# Altium schematic symbol library TTL_Library.SchLib: 480 symbols (part 4 of 4)
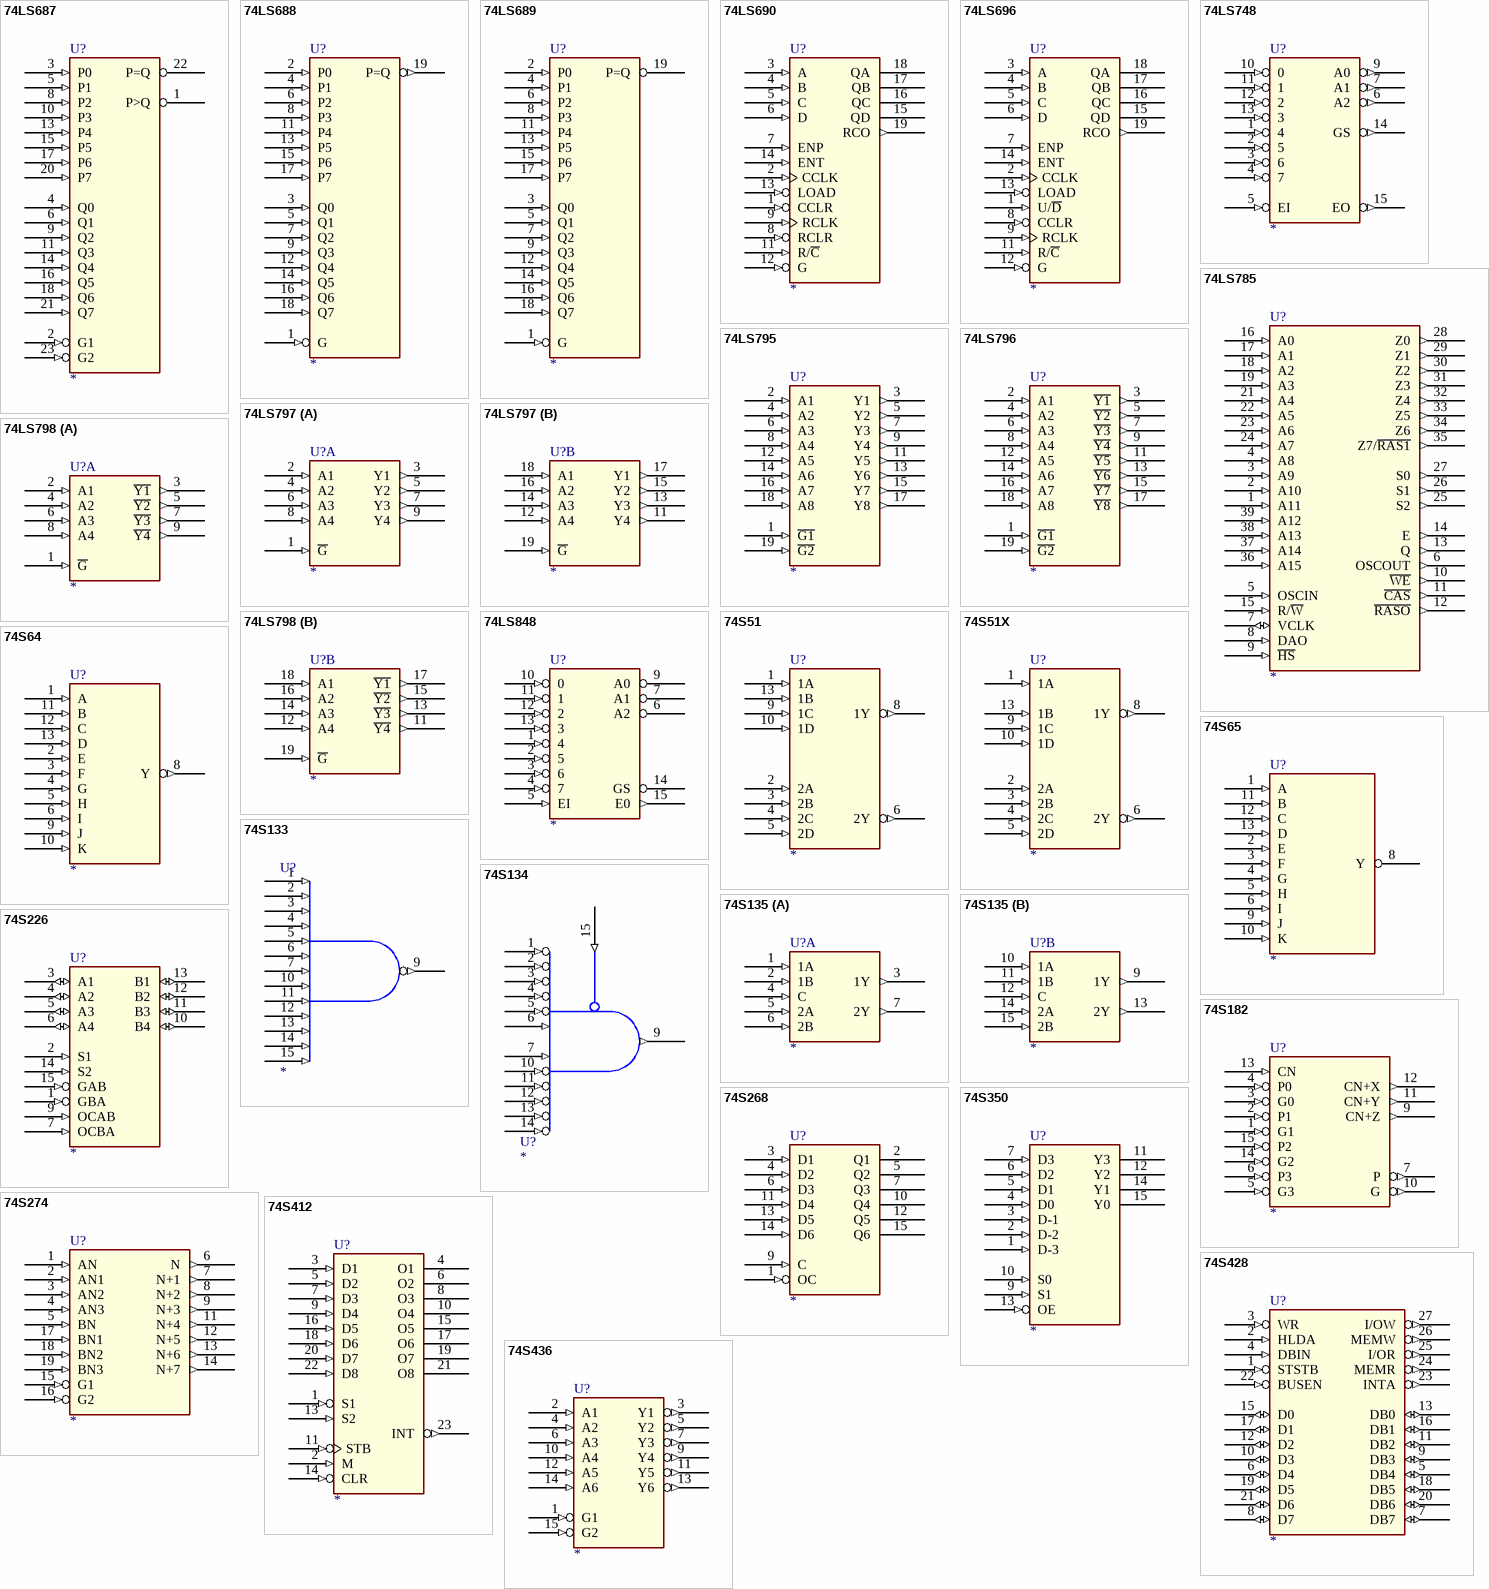
[diagram p28: symbols 74LS687 to 74S436]

## 74LS696
designator U?
pins: 1 U/~{D} (in), 2 CCLK (in), 3 A (in), 4 B (in), 5 C (in), 6 D (in), 7 ENP (in), 8 CCLR (in), 9 RCLK (in), 10 GND (power) hidden to GND, 11 R/~{C} (in), 12 G (in), 13 LOAD (in), 14 ENT (in), 15 QD (hiz), 16 QC (hiz), 17 QB (hiz), 18 QA (hiz), 19 RCO (out), 20 VCC (power) hidden to VCC

## 74LS748
designator U?
pins: 1 4 (in), 2 5 (in), 3 6 (in), 4 7 (in), 5 EI (in), 6 A2 (out), 7 A1 (out), 8 GND (power) hidden to GND, 9 A0 (out), 10 0 (in), 11 1 (in), 12 2 (in), 13 3 (in), 14 GS (out), 15 EO (out), 16 VCC (power) hidden to VCC

## 74LS785
designator U?
pins: 1 A11 (in), 2 A10 (in), 3 A9 (in), 4 A8 (in), 5 OSCIN (in), 6 OSCOUT (out), 7 VCLK (io), 8 DAO (in), 9 ~{HS} (in), 10 ~{WE} (out), 11 ~{CAS} (out), 12 ~{RASO} (out), 13 Q (out), 14 E (out), 15 R/~{W} (in), 16 A0 (in), 17 A1 (in), 18 A2 (in), 19 A3 (in), 20 GND (power) hidden to GND, 21 A4 (in), 22 A5 (in), 23 A6 (in), 24 A7 (in), 25 S2 (out), 26 S1 (out), 27 S0 (out), 28 Z0 (out), 29 Z1 (out), 30 Z2 (out), 31 Z3 (out), 32 Z4 (out), 33 Z5 (out), 34 Z6 (out), 35 Z7/~{RAS1} (out), 36 A15 (in), 37 A14 (in), 38 A13 (in), 39 A12 (in), 40 VCC (power) hidden to VCC

## 74LS795
designator U?
pins: 1 ~{G1} (in), 2 A1 (in), 3 Y1 (out), 4 A2 (in), 5 Y2 (out), 6 A3 (in), 7 Y3 (out), 8 A4 (in), 9 Y4 (out), 10 GND (power) hidden to GND, 11 Y5 (out), 12 A5 (in), 13 Y6 (out), 14 A6 (in), 15 Y7 (out), 16 A7 (in), 17 Y8 (out), 18 A8 (in), 19 ~{G2} (in), 20 VCC (power) hidden to VCC

## 74LS796
designator U?
pins: 1 ~{G1} (in), 2 A1 (in), 3 ~{Y1} (out), 4 A2 (in), 5 ~{Y2} (out), 6 A3 (in), 7 ~{Y3} (out), 8 A4 (in), 9 ~{Y4} (out), 10 GND (power) hidden to GND, 11 ~{Y5} (out), 12 A5 (in), 13 ~{Y6} (out), 14 A6 (in), 15 ~{Y7} (out), 16 A7 (in), 17 ~{Y8} (out), 18 A8 (in), 19 ~{G2} (in), 20 VCC (power) hidden to VCC

## 74LS797
designator U?
part A pins: 1 ~{G} (in), 2 A1 (in), 3 Y1 (out), 4 A2 (in), 5 Y2 (out), 6 A3 (in), 7 Y3 (out), 8 A4 (in), 9 Y4 (out), 10 GND (power) hidden to GND, 20 VCC (power) hidden to VCC
part B pins: 10 GND (power) hidden to GND, 11 Y4 (out), 12 A4 (in), 13 Y3 (out), 14 A3 (in), 15 Y2 (out), 16 A2 (in), 17 Y1 (out), 18 A1 (in), 19 ~{G} (in), 20 VCC (power) hidden to VCC

## 74LS798
designator U?
part A pins: 1 ~{G} (in), 2 A1 (in), 3 ~{Y1} (out), 4 A2 (in), 5 ~{Y2} (out), 6 A3 (in), 7 ~{Y3} (out), 8 A4 (in), 9 ~{Y4} (out), 10 GND (power) hidden to GND, 20 VCC (power) hidden to VCC
part B pins: 10 GND (power) hidden to GND, 11 ~{Y4} (out), 12 A4 (in), 13 ~{Y3} (out), 14 A3 (in), 15 ~{Y2} (out), 16 A2 (in), 17 ~{Y1} (out), 18 A1 (in), 19 ~{G} (in), 20 VCC (power) hidden to VCC

## 74LS848
designator U?
pins: 1 4 (in), 2 5 (in), 3 6 (in), 4 7 (in), 5 EI (in), 6 A2 (hiz), 7 A1 (hiz), 8 GND (power) hidden to GND, 9 A0 (hiz), 10 0 (in), 11 1 (in), 12 2 (in), 13 3 (in), 14 GS (hiz), 15 E0 (out), 16 VCC (power) hidden to VCC

## 74S51
designator U?
pins: 1 1A (in), 2 2A (in), 3 2B (in), 4 2C (in), 5 2D (in), 6 2Y (out), 7 GND (power) hidden to GND, 8 1Y (out), 9 1C (in), 10 1D (in), 13 1B (in), 14 VCC (power) hidden to VCC

## 74S51X
designator U?
pins: 1 1A (in), 2 2A (in), 3 2B (in), 4 2C (in), 5 2D (in), 6 2Y (out), 7 GND (power) hidden to GND, 8 1Y (out), 9 1C (in), 10 1D (in), 13 1B (in), 14 VCC (power) hidden to VCC

## 74S64
designator U?
pins: 1 A (in), 2 E (in), 3 F (in), 4 G (in), 5 H (in), 6 I (in), 7 GND (power) hidden to GND, 8 Y (out), 9 J (in), 10 K (in), 11 B (in), 12 C (in), 13 D (in), 14 VCC (power) hidden to VCC

## 74S65
designator U?
pins: 1 A (in), 2 E (in), 3 F (in), 4 G (in), 5 H (in), 6 I (in), 7 GND (power) hidden to GND, 8 Y (oc), 9 J (in), 10 K (in), 11 B (in), 12 C (in), 13 D (in), 14 VCC (power) hidden to VCC

## 74S133
designator U?
pins: 1 I0 (in), 2 I1 (in), 3 I2 (in), 4 I3 (in), 5 I4 (in), 6 I5 (in), 7 I6 (in), 8 GND (power) hidden to GND, 9 O (out), 10 I7 (in), 11 I8 (in), 12 I9 (in), 13 I10 (in), 14 I11 (in), 15 I12 (in), 16 VCC (power) hidden to VCC
1 alternate drawing of the same symbol

## 74S134
designator U?
pins: 1 I0 (in), 2 I1 (in), 3 I2 (in), 4 I3 (in), 5 I4 (in), 6 I5 (in), 7 I6 (in), 8 GND (power) hidden to GND, 9 O (out), 10 I7 (in), 11 I8 (in), 12 I9 (in), 13 I10 (in), 14 I11 (in), 15 OE (in), 16 VCC (power) hidden to VCC
1 alternate drawing of the same symbol

## 74S135
designator U?
part A pins: 1 1A (in), 2 1B (in), 3 1Y (out), 4 C (in), 5 2A (in), 6 2B (in), 7 2Y (out), 8 GND (power) hidden to GND, 16 VCC (power) hidden to VCC
part B pins: 8 GND (power) hidden to GND, 9 1Y (out), 10 1A (in), 11 1B (in), 12 C (in), 13 2Y (out), 14 2A (in), 15 2B (in), 16 VCC (power) hidden to VCC

## 74S182
designator U?
pins: 1 G1 (in), 2 P1 (in), 3 G0 (in), 4 P0 (in), 5 G3 (in), 6 P3 (in), 7 P (out), 8 GND (power) hidden to GND, 9 CN+Z (out), 10 G (out), 11 CN+Y (out), 12 CN+X (out), 13 CN (in), 14 G2 (in), 15 P2 (in), 16 VCC (power) hidden to VCC

## 74S226
designator U?
pins: 1 GBA (in), 2 S1 (in), 3 A1 (io), 4 A2 (io), 5 A3 (io), 6 A4 (io), 7 OCBA (in), 8 GND (power) hidden to GND, 9 OCAB (in), 10 B4 (io), 11 B3 (io), 12 B2 (io), 13 B1 (io), 14 S2 (in), 15 GAB (in), 16 VCC (power) hidden to VCC

## 74S268
designator U?
pins: 1 OC (in), 2 Q1 (hiz), 3 D1 (in), 4 D2 (in), 5 Q2 (hiz), 6 D3 (in), 7 Q3 (hiz), 8 GND (power) hidden to GND, 9 C (in), 10 Q4 (hiz), 11 D4 (in), 12 Q5 (hiz), 13 D5 (in), 14 D6 (in), 15 Q6 (hiz), 16 VCC (power) hidden to VCC

## 74S274
designator U?
pins: 1 AN (in), 2 AN1 (in), 3 AN2 (in), 4 AN3 (in), 5 BN (in), 6 N (out), 7 N+1 (out), 8 N+2 (out), 9 N+3 (out), 10 GND (power) hidden to GND, 11 N+4 (out), 12 N+5 (out), 13 N+6 (out), 14 N+7 (out), 15 G1 (in), 16 G2 (in), 17 BN1 (in), 18 BN2 (in), 19 BN3 (in), 20 VCC (power) hidden to VCC

## 74S350
designator U?
pins: 1 D-3 (in), 2 D-2 (in), 3 D-1 (in), 4 D0 (in), 5 D1 (in), 6 D2 (in), 7 D3 (in), 8 GND (power) hidden to GND, 9 S1 (in), 10 S0 (in), 11 Y3 (hiz), 12 Y2 (hiz), 13 OE (in), 14 Y1 (hiz), 15 Y0 (hiz), 16 VCC (power) hidden to VCC

## 74S412
designator U?
pins: 1 S1 (in), 2 M (in), 3 D1 (in), 4 O1 (hiz), 5 D2 (in), 6 O2 (hiz), 7 D3 (in), 8 O3 (hiz), 9 D4 (in), 10 O4 (hiz), 11 STB (in), 12 GND (power) hidden to GND, 13 S2 (in), 14 CLR (in), 15 O5 (hiz), 16 D5 (in), 17 O6 (hiz), 18 D6 (in), 19 O7 (hiz), 20 D7 (in), 21 O8 (hiz), 22 D8 (in), 23 INT (out), 24 VCC (power) hidden to VCC

## 74S428
designator U?
pins: 1 STSTB (in), 2 HLDA (in), 3 WR (in), 4 DBIN (in), 5 DB4 (io), 6 D4 (io), 7 DB7 (io), 8 D7 (io), 9 DB3 (io), 10 D3 (io), 11 DB2 (io), 12 D2 (io), 13 DB0 (io), 14 GND (power) hidden to GND, 15 D0 (io), 16 DB1 (io), 17 D1 (io), 18 DB5 (io), 19 D5 (io), 20 DB6 (io), 21 D6 (io), 22 BUSEN (in), 23 INTA (out), 24 MEMR (out), 25 I/OR (out), 26 MEMW (out), 27 I/OW (out), 28 VCC (power) hidden to VCC

## 74S436
designator U?
pins: 1 G1 (in), 2 A1 (in), 3 Y1 (out), 4 A2 (in), 5 Y2 (out), 6 A3 (in), 7 Y3 (out), 8 GND (power) hidden to GND, 9 Y4 (out), 10 A4 (in), 11 Y5 (out), 12 A5 (in), 13 Y6 (out), 14 A6 (in), 15 G2 (in), 16 VCC (power) hidden to VCC

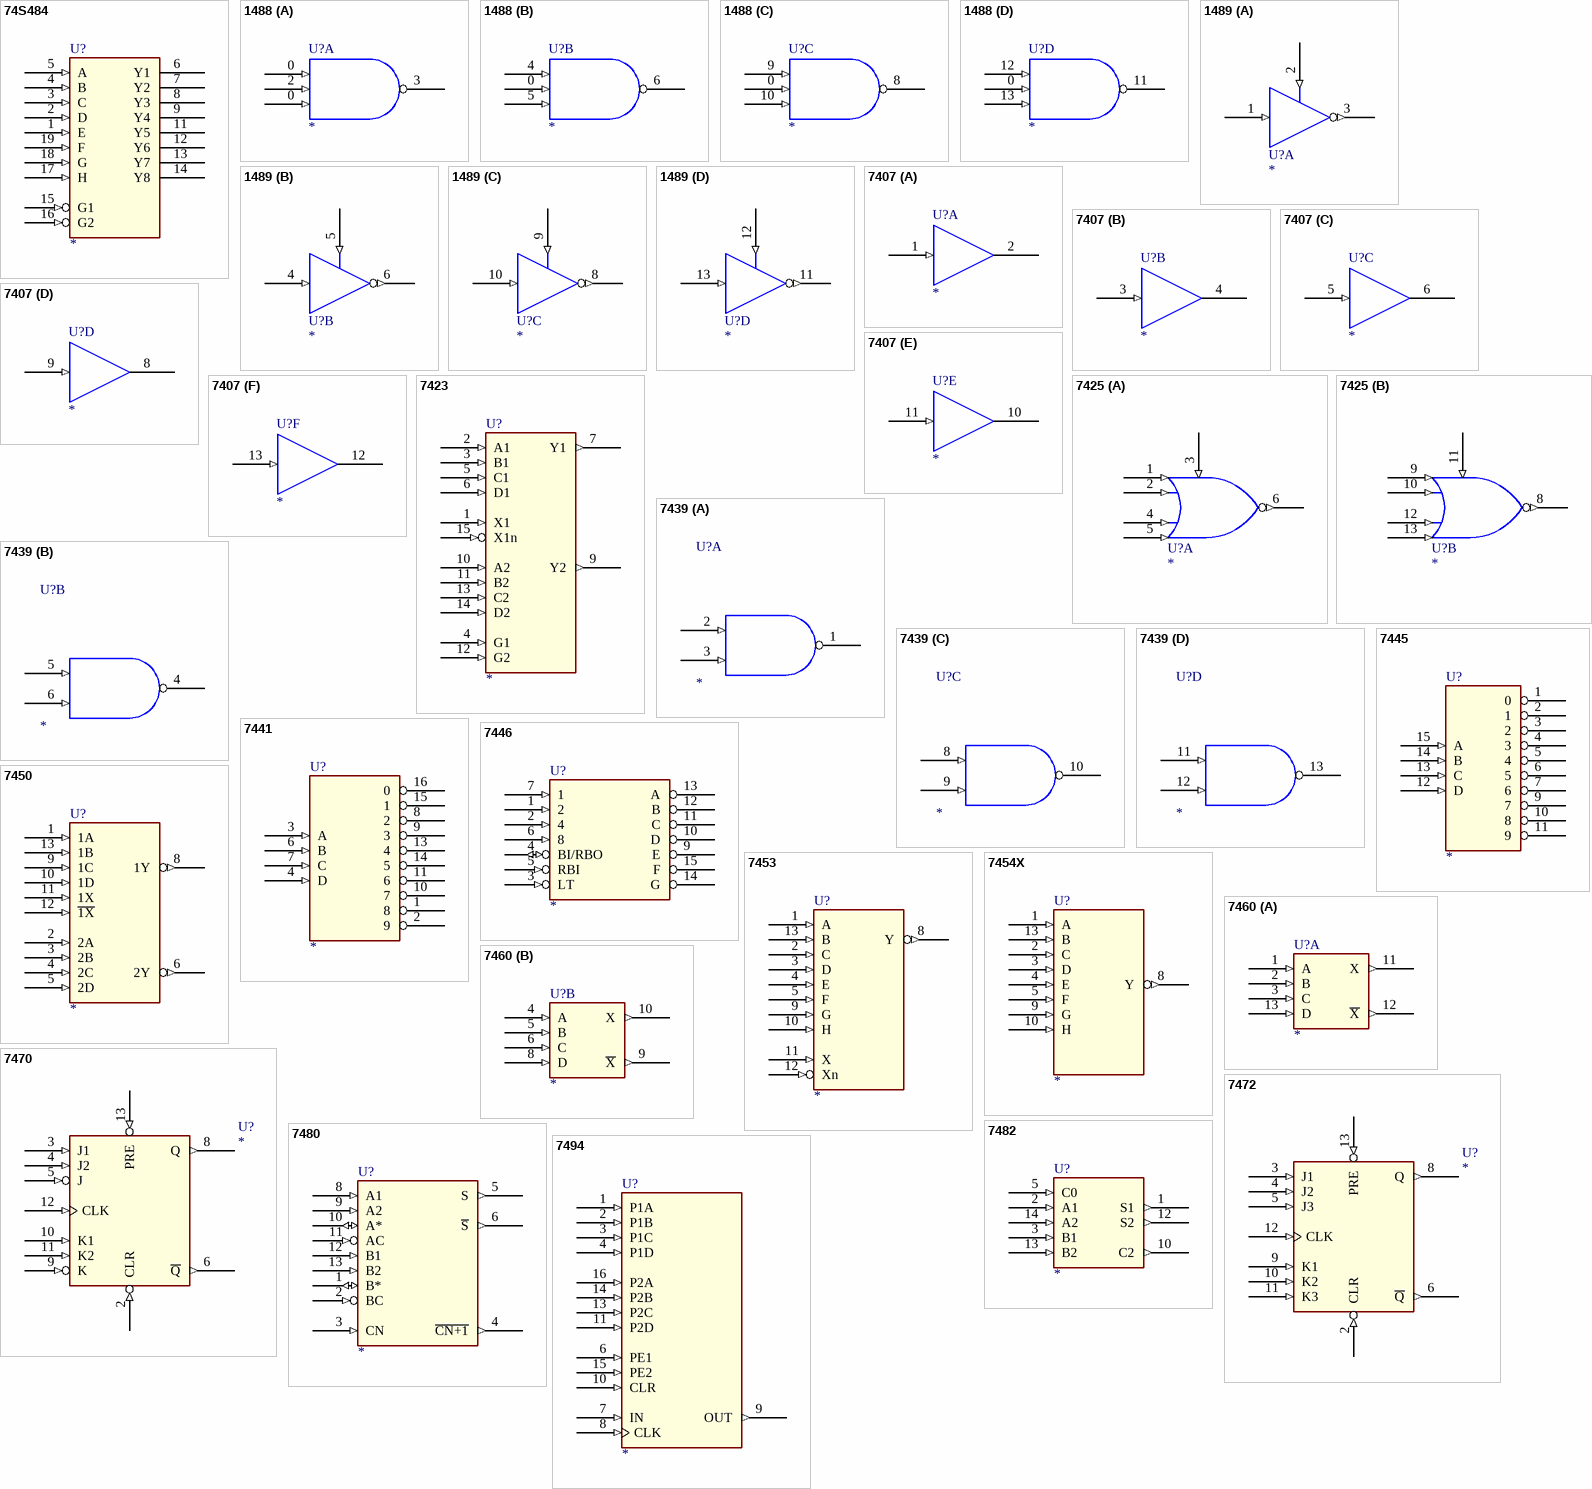
[diagram p23: symbols 74S484 to 7494]

## 74S484
designator U?
pins: 1 E (in), 2 D (in), 3 C (in), 4 B (in), 5 A (in), 6 Y1 (hiz), 7 Y2 (hiz), 8 Y3 (hiz), 9 Y4 (hiz), 10 GND (power) hidden to GND, 11 Y5 (hiz), 12 Y6 (hiz), 13 Y7 (hiz), 14 Y8 (hiz), 15 G1 (in), 16 G2 (in), 17 H (in), 18 G (in), 19 F (in), 20 VCC (power) hidden to VCC

## 1488
designator U?
part A pins: 0 I0 (in), 0 I2 (in), 1 V- (power) hidden to V-, 2 I1 (in), 3 O (oc), 7 GND (power) hidden to GND, 14 V+ (power) hidden to V+
part B pins: 0 I1 (in), 1 V- (power) hidden to V-, 4 I0 (in), 5 I2 (in), 6 O (oc), 7 GND (power) hidden to GND, 14 V+ (power) hidden to V+
part C pins: 0 I1 (in), 1 V- (power) hidden to V-, 7 GND (power) hidden to GND, 8 O (oc), 9 I0 (in), 10 I2 (in), 14 V+ (power) hidden to V+
part D pins: 0 I1 (in), 1 V- (power) hidden to V-, 7 GND (power) hidden to GND, 11 O (oc), 12 I0 (in), 13 I2 (in), 14 V+ (power) hidden to V+

## 1489
designator U?
part A pins: 1 I (in), 2 RC (in), 3 O (out), 7 GND (power) hidden to GND, 14 VCC (power) hidden to VCC
part B pins: 4 I (in), 5 RC (in), 6 O (out), 7 GND (power) hidden to GND, 14 VCC (power) hidden to VCC
part C pins: 7 GND (power) hidden to GND, 8 O (out), 9 RC (in), 10 I (in), 14 VCC (power) hidden to VCC
part D pins: 7 GND (power) hidden to GND, 11 O (out), 12 RC (in), 13 I (in), 14 VCC (power) hidden to VCC

## 7407
designator U?
part A pins: 1 I (in), 2 O (oc), 7 GND (power) hidden to GND, 14 VCC (power) hidden to VCC
part B pins: 3 I (in), 4 O (oc), 7 GND (power) hidden to GND, 14 VCC (power) hidden to VCC
part C pins: 5 I (in), 6 O (oc), 7 GND (power) hidden to GND, 14 VCC (power) hidden to VCC
part D pins: 7 GND (power) hidden to GND, 8 O (oc), 9 I (in), 14 VCC (power) hidden to VCC
part E pins: 7 GND (power) hidden to GND, 10 O (oc), 11 I (in), 14 VCC (power) hidden to VCC
part F pins: 7 GND (power) hidden to GND, 12 O (oc), 13 I (in), 14 VCC (power) hidden to VCC
1 alternate drawing of the same symbol

## 7423
designator U?
pins: 1 X1 (in), 2 A1 (in), 3 B1 (in), 4 G1 (in), 5 C1 (in), 6 D1 (in), 7 Y1 (out), 8 GND (power) hidden to GND, 9 Y2 (out), 10 A2 (in), 11 B2 (in), 12 G2 (in), 13 C2 (in), 14 D2 (in), 15 X1n (in), 16 VCC (power) hidden to VCC

## 7425
designator U?
part A pins: 1 I0 (in), 2 I1 (in), 3 G (in), 4 I2 (in), 5 I3 (in), 6 O (out), 7 GND (power) hidden to GND, 14 VCC (power) hidden to VCC
part B pins: 7 GND (power) hidden to GND, 8 O (out), 9 I0 (in), 10 I1 (in), 11 G (in), 12 I2 (in), 13 I3 (in), 14 VCC (power) hidden to VCC
1 alternate drawing of the same symbol

## 7439
designator U?
part A pins: 1 O (oc), 2 I0 (in), 3 I1 (in), 7 GND (power) hidden to GND, 14 VCC (power) hidden to VCC
part B pins: 4 O (oc), 5 I0 (in), 6 I1 (in), 7 GND (power) hidden to GND, 14 VCC (power) hidden to VCC
part C pins: 7 GND (power) hidden to GND, 8 I0 (in), 9 I1 (in), 10 O (oc), 14 VCC (power) hidden to VCC
part D pins: 7 GND (power) hidden to GND, 11 I0 (in), 12 I1 (in), 13 O (oc), 14 VCC (power) hidden to VCC
1 alternate drawing of the same symbol

## 7441
designator U?
pins: 1 8 (oc), 2 9 (oc), 3 A (in), 4 D (in), 5 VCC (power) hidden to VCC, 6 B (in), 7 C (in), 8 2 (oc), 9 3 (oc), 10 7 (oc), 11 6 (oc), 12 GND (power) hidden to GND, 13 4 (oc), 14 5 (oc), 15 1 (oc), 16 0 (oc)

## 7445
designator U?
pins: 1 0 (oc), 2 1 (oc), 3 2 (oc), 4 3 (oc), 5 4 (oc), 6 5 (oc), 7 6 (oc), 8 GND (power) hidden to GND, 9 7 (oc), 10 8 (oc), 11 9 (oc), 12 D (in), 13 C (in), 14 B (in), 15 A (in), 16 VCC (power) hidden to VCC

## 7446
designator U?
pins: 1 2 (in), 2 4 (in), 3 LT (in), 4 BI/RBO (io), 5 RBI (in), 6 8 (in), 7 1 (in), 8 GND (power) hidden to GND, 9 E (oc), 10 D (oc), 11 C (oc), 12 B (oc), 13 A (oc), 14 G (oc), 15 F (oc), 16 VCC (power) hidden to VCC

## 7450
designator U?
pins: 1 1A (in), 2 2A (in), 3 2B (in), 4 2C (in), 5 2D (in), 6 2Y (out), 7 GND (power) hidden to GND, 8 1Y (out), 9 1C (in), 10 1D (in), 11 1X (in), 12 ~{1X} (in), 13 1B (in), 14 VCC (power) hidden to VCC

## 7453
designator U?
pins: 1 A (in), 2 C (in), 3 D (in), 4 E (in), 5 F (in), 7 GND (power) hidden to GND, 8 Y (out), 9 G (in), 10 H (in), 11 X (in), 12 Xn (in), 13 B (in), 14 VCC (power) hidden to VCC

## 7454X
designator U?
pins: 1 A (in), 2 C (in), 3 D (in), 4 E (in), 5 F (in), 7 GND (power) hidden to GND, 8 Y (out), 9 G (in), 10 H (in), 13 B (in), 14 VCC (power) hidden to VCC

## 7460
designator U?
part A pins: 1 A (in), 2 B (in), 3 C (in), 7 GND (power) hidden to GND, 11 X (out), 12 ~{X} (out), 13 D (in), 14 VCC (power) hidden to VCC
part B pins: 4 A (in), 5 B (in), 6 C (in), 7 GND (power) hidden to GND, 8 D (in), 9 ~{X} (out), 10 X (out), 14 VCC (power) hidden to VCC

## 7470
designator U?
pins: 2 CLR (in), 3 J1 (in), 4 J2 (in), 5 J (in), 6 ~{Q} (out), 7 GND (power) hidden to GND, 8 Q (out), 9 K (in), 10 K1 (in), 11 K2 (in), 12 CLK (in), 13 PRE (in), 14 VCC (power) hidden to VCC

## 7472
designator U?
pins: 2 CLR (in), 3 J1 (in), 4 J2 (in), 5 J3 (in), 6 ~{Q} (out), 7 GND (power) hidden to GND, 8 Q (out), 9 K1 (in), 10 K2 (in), 11 K3 (in), 12 CLK (in), 13 PRE (in), 14 VCC (power) hidden to VCC

## 7480
designator U?
pins: 1 B* (io), 2 BC (in), 3 CN (in), 4 ~{CN+1} (out), 5 S (out), 6 ~{S} (out), 7 GND (power) hidden to GND, 8 A1 (in), 9 A2 (in), 10 A* (io), 11 AC (in), 12 B1 (in), 13 B2 (in), 14 VCC (power) hidden to VCC

## 7482
designator U?
pins: 1 S1 (out), 2 A1 (in), 3 B1 (in), 4 VCC (power) hidden to VCC, 5 C0 (in), 7 GND (power) hidden to GND, 10 C2 (out), 12 S2 (out), 13 B2 (in), 14 A2 (in)

## 7494
designator U?
pins: 1 P1A (in), 2 P1B (in), 3 P1C (in), 4 P1D (in), 5 VCC (power) hidden to VCC, 6 PE1 (in), 7 IN (in), 8 CLK (in), 9 OUT (out), 10 CLR (in), 11 P2D (in), 12 GND (power) hidden to GND, 13 P2C (in), 14 P2B (in), 15 PE2 (in), 16 P2A (in)

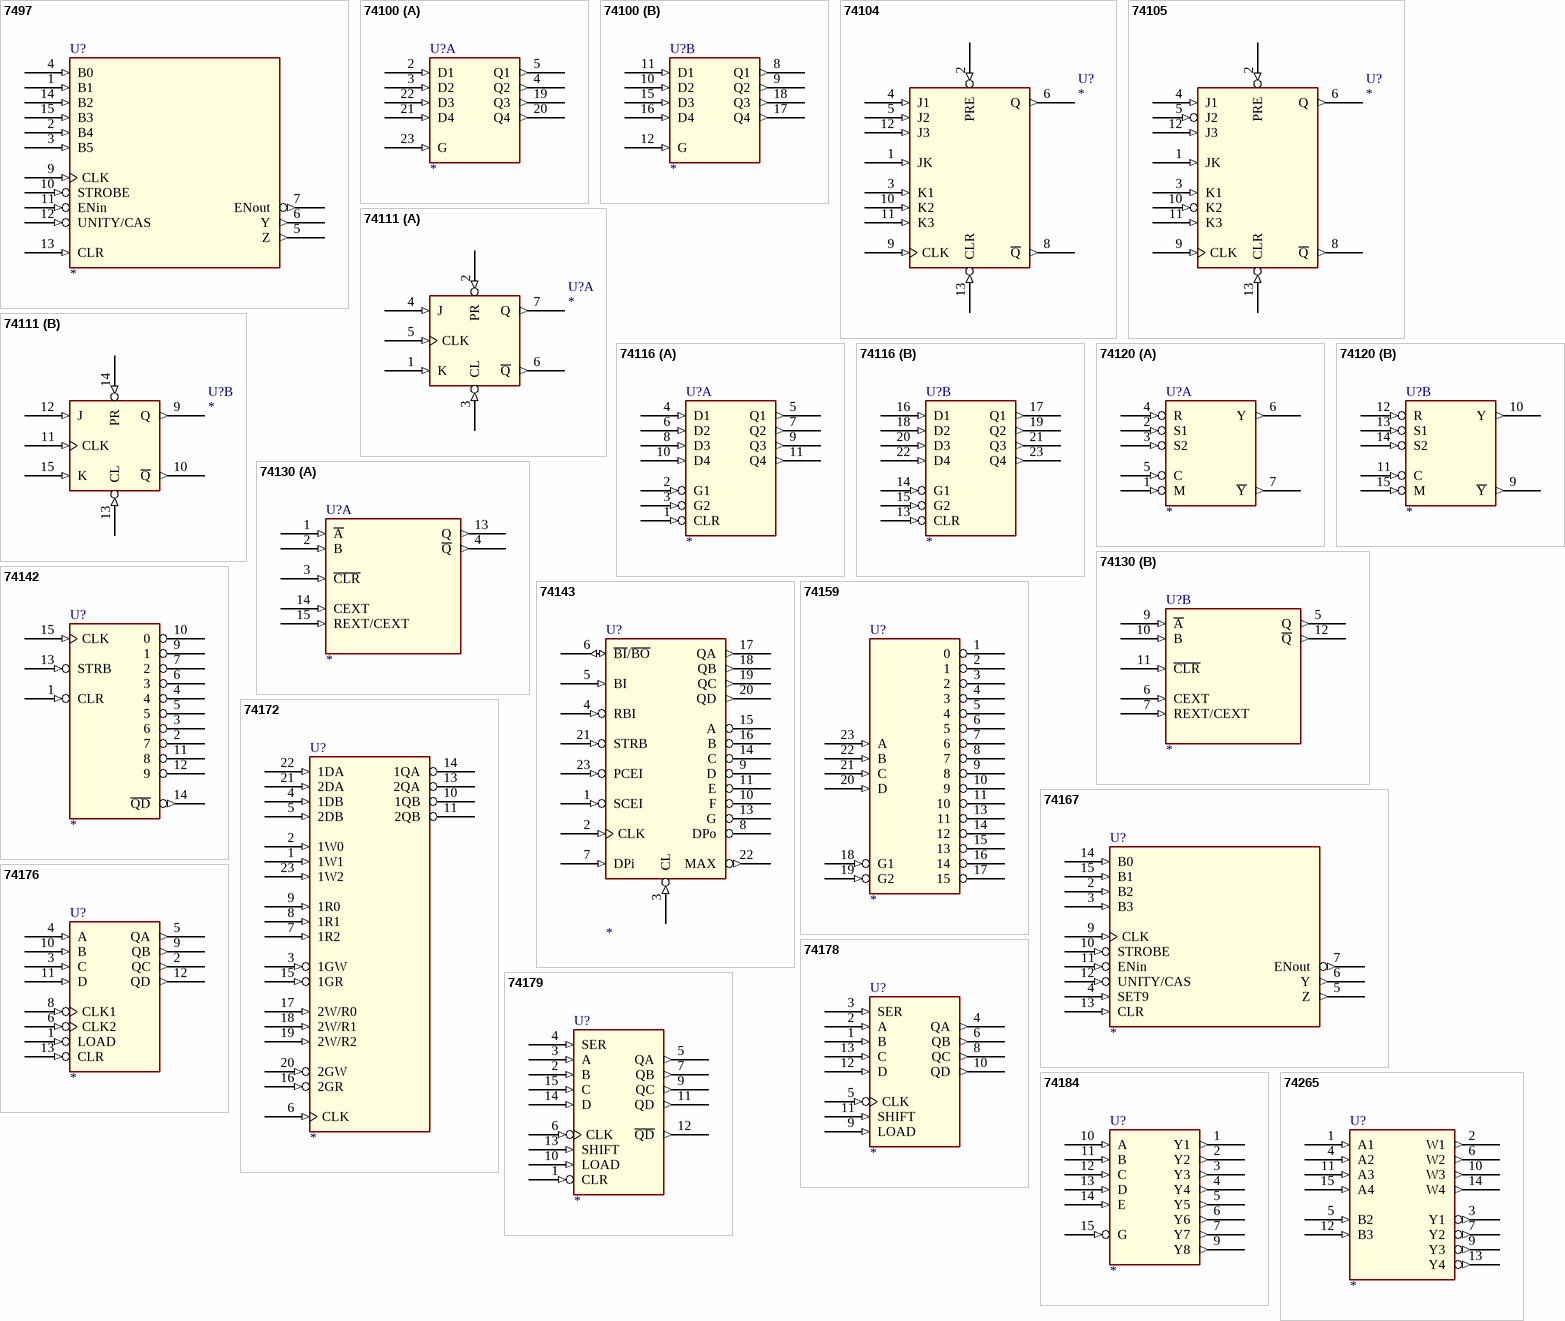
[diagram p24: symbols 7497 to 74265]

## 7497
designator U?
pins: 1 B1 (in), 2 B4 (in), 3 B5 (in), 4 B0 (in), 5 Z (out), 6 Y (out), 7 ENout (out), 8 GND (power) hidden to GND, 9 CLK (in), 10 STROBE (in), 11 ENin (in), 12 UNITY/CAS (in), 13 CLR (in), 14 B2 (in), 15 B3 (in), 16 VCC (power) hidden to VCC

## 74100
designator U?
part A pins: 2 D1 (in), 3 D2 (in), 4 Q2 (out), 5 Q1 (out), 7 GND (power) hidden to GND, 19 Q3 (out), 20 Q4 (out), 21 D4 (in), 22 D3 (in), 23 G (in), 24 VCC (power) hidden to VCC
part B pins: 7 GND (power) hidden to GND, 8 Q1 (out), 9 Q2 (out), 10 D2 (in), 11 D1 (in), 12 G (in), 15 D3 (in), 16 D4 (in), 17 Q4 (out), 18 Q3 (out), 24 VCC (power) hidden to VCC

## 74104
designator U?
pins: 1 JK (in), 2 PRE (in), 3 K1 (in), 4 J1 (in), 5 J2 (in), 6 Q (out), 7 GND (power) hidden to GND, 8 ~{Q} (out), 9 CLK (in), 10 K2 (in), 11 K3 (in), 12 J3 (in), 13 CLR (in), 14 VCC (power) hidden to VCC

## 74105
designator U?
pins: 1 JK (in), 2 PRE (in), 3 K1 (in), 4 J1 (in), 5 J2 (in), 6 Q (out), 7 GND (power) hidden to GND, 8 ~{Q} (out), 9 CLK (in), 10 K2 (in), 11 K3 (in), 12 J3 (in), 13 CLR (in), 14 VCC (power) hidden to VCC

## 74111
designator U?
part A pins: 1 K (in), 2 PR (in), 3 CL (in), 4 J (in), 5 CLK (in), 6 ~{Q} (out), 7 Q (out), 8 GND (power) hidden to GND, 16 VCC (power) hidden to VCC
part B pins: 8 GND (power) hidden to GND, 9 Q (out), 10 ~{Q} (out), 11 CLK (in), 12 J (in), 13 CL (in), 14 PR (in), 15 K (in), 16 VCC (power) hidden to VCC

## 74116
designator U?
part A pins: 1 CLR (in), 2 G1 (in), 3 G2 (in), 4 D1 (in), 5 Q1 (out), 6 D2 (in), 7 Q2 (out), 8 D3 (in), 9 Q3 (out), 10 D4 (in), 11 Q4 (out), 12 GND (power) hidden to GND, 24 VCC (power) hidden to VCC
part B pins: 12 GND (power) hidden to GND, 13 CLR (in), 14 G1 (in), 15 G2 (in), 16 D1 (in), 17 Q1 (out), 18 D2 (in), 19 Q2 (out), 20 D3 (in), 21 Q3 (out), 22 D4 (in), 23 Q4 (out), 24 VCC (power) hidden to VCC

## 74120
designator U?
part A pins: 1 M (in), 2 S1 (in), 3 S2 (in), 4 R (in), 5 C (in), 6 Y (out), 7 ~{Y} (out), 8 GND (power) hidden to GND, 16 VCC (power) hidden to VCC
part B pins: 8 GND (power) hidden to GND, 9 ~{Y} (out), 10 Y (out), 11 C (in), 12 R (in), 13 S1 (in), 14 S2 (in), 15 M (in), 16 VCC (power) hidden to VCC

## 74130
designator U?
part A pins: 1 ~{A} (in), 2 B (in), 3 ~{CLR} (in), 4 ~{Q} (out), 8 GND (power) hidden to GND, 13 Q (out), 14 CEXT (in), 15 REXT/CEXT (in), 16 VCC (power) hidden to VCC
part B pins: 5 Q (out), 6 CEXT (in), 7 REXT/CEXT (in), 8 GND (power) hidden to GND, 9 ~{A} (in), 10 B (in), 11 ~{CLR} (in), 12 ~{Q} (out), 16 VCC (power) hidden to VCC

## 74142
designator U?
pins: 1 CLR (in), 2 7 (oc), 3 6 (oc), 4 (oc), 5 (oc), 6 3 (oc), 7 2 (oc), 8 GND (power) hidden to GND, 9 1 (oc), 10 0 (oc), 11 8 (oc), 12 9 (oc), 13 STRB (in), 14 ~{QD} (out), 15 CLK (in), 16 VCC (power) hidden to VCC

## 74143
designator U?
pins: 1 SCEI (in), 2 CLK (in), 3 CL (in), 4 RBI (in), 5 BI (in), 6 ~{BI}/~{BO} (io), 7 DPi (in), 8 DPo (oc), 9 D (oc), 10 F (oc), 11 E (oc), 12 GND (power) hidden to GND, 13 G (oc), 14 C (oc), 15 A (oc), 16 B (oc), 17 QA (out), 18 QB (out), 19 QC (out), 20 QD (out), 21 STRB (in), 22 MAX (out), 23 PCEI (in), 24 VCC (power) hidden to VCC

## 74159
designator U?
pins: 1 0 (oc), 2 1 (oc), 3 2 (oc), 4 3 (oc), 5 4 (oc), 6 5 (oc), 7 6 (oc), 8 7 (oc), 9 8 (oc), 10 9 (oc), 11 10 (oc), 12 GND (power) hidden to GND, 13 11 (oc), 14 12 (oc), 15 13 (oc), 16 14 (oc), 17 15 (oc), 18 G1 (in), 19 G2 (in), 20 D (in), 21 C (in), 22 B (in), 23 A (in), 24 VCC (power) hidden to VCC

## 74167
designator U?
pins: 2 B2 (in), 3 B3 (in), 4 SET9 (in), 5 Z (out), 6 Y (out), 7 ENout (out), 8 GND (power) hidden to GND, 9 CLK (in), 10 STROBE (in), 11 ENin (in), 12 UNITY/CAS (in), 13 CLR (in), 14 B0 (in), 15 B1 (in), 16 VCC (power) hidden to VCC

## 74172
designator U?
pins: 1 1W1 (in), 2 1W0 (in), 3 1GW (in), 4 1DB (in), 5 2DB (in), 6 CLK (in), 7 1R2 (in), 8 1R1 (in), 9 1R0 (in), 10 1QB (hiz), 11 2QB (hiz), 12 GND (power) hidden to GND, 13 2QA (hiz), 14 1QA (hiz), 15 1GR (in), 16 2GR (in), 17 2W/R0 (in), 18 2W/R1 (in), 19 2W/R2 (in), 20 2GW (in), 21 2DA (in), 22 1DA (in), 23 1W2 (in), 24 VCC (power) hidden to VCC

## 74176
designator U?
pins: 1 LOAD (in), 2 QC (out), 3 C (in), 4 A (in), 5 QA (out), 6 CLK2 (in), 7 GND (power) hidden to GND, 8 CLK1 (in), 9 QB (out), 10 B (in), 11 D (in), 12 QD (out), 13 CLR (in), 14 VCC (power) hidden to VCC

## 74178
designator U?
pins: 1 B (in), 2 A (in), 3 SER (in), 4 QA (out), 5 CLK (in), 6 QB (out), 7 GND (power) hidden to GND, 8 QC (out), 9 LOAD (in), 10 QD (out), 11 SHIFT (in), 12 D (in), 13 C (in), 14 VCC (power) hidden to VCC

## 74179
designator U?
pins: 1 CLR (in), 2 B (in), 3 A (in), 4 SER (in), 5 QA (out), 6 CLK (in), 7 QB (out), 8 GND (power) hidden to GND, 9 QC (out), 10 LOAD (in), 11 QD (out), 12 ~{QD} (out), 13 SHIFT (in), 14 D (in), 15 C (in), 16 VCC (power) hidden to VCC

## 74184
designator U?
pins: 1 Y1 (out), 2 Y2 (out), 3 Y3 (out), 4 Y4 (out), 5 Y5 (out), 6 Y6 (out), 7 Y7 (out), 8 GND (power) hidden to GND, 9 Y8 (out), 10 A (in), 11 B (in), 12 C (in), 13 D (in), 14 E (in), 15 G (in), 16 VCC (power) hidden to VCC

## 74265
designator U?
pins: 1 A1 (in), 2 W1 (out), 3 Y1 (out), 4 A2 (in), 5 B2 (in), 6 W2 (out), 7 Y2 (out), 8 GND (power) hidden to GND, 9 Y3 (out), 10 W3 (out), 11 A3 (in), 12 B3 (in), 13 Y4 (out), 14 W4 (out), 15 A4 (in), 16 VCC (power) hidden to VCC

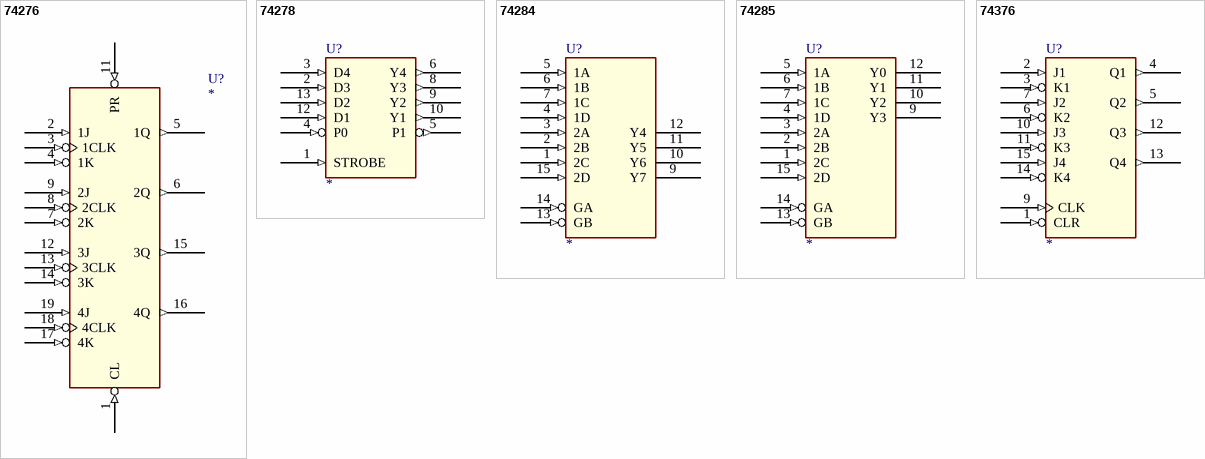
[diagram p25: symbols 74276 to 74376]

## 74276
designator U?
pins: 1 CL (in), 2 1J (in), 3 1CLK (in), 4 1K (in), 5 1Q (out), 6 2Q (out), 7 2K (in), 8 2CLK (in), 9 2J (in), 10 GND (power) hidden to GND, 11 PR (in), 12 3J (in), 13 3CLK (in), 14 3K (in), 15 3Q (out), 16 4Q (out), 17 4K (in), 18 4CLK (in), 19 4J (in), 20 VCC (power) hidden to VCC

## 74278
designator U?
pins: 1 STROBE (in), 2 D3 (in), 3 D4 (in), 4 P0 (in), 5 P1 (out), 6 Y4 (out), 7 GND (power) hidden to GND, 8 Y3 (out), 9 Y2 (out), 10 Y1 (out), 12 D1 (in), 13 D2 (in), 14 VCC (power) hidden to VCC

## 74284
designator U?
pins: 1 2C (in), 2 2B (in), 3 2A (in), 4 1D (in), 5 1A (in), 6 1B (in), 7 1C (in), 8 GND (power) hidden to GND, 9 Y7 (oc), 10 Y6 (oc), 11 Y5 (oc), 12 Y4 (oc), 13 GB (in), 14 GA (in), 15 2D (in), 16 VCC (power) hidden to VCC

## 74285
designator U?
pins: 1 2C (in), 2 2B (in), 3 2A (in), 4 1D (in), 5 1A (in), 6 1B (in), 7 1C (in), 8 GND (power) hidden to GND, 9 Y3 (oc), 10 Y2 (oc), 11 Y1 (oc), 12 Y0 (oc), 13 GB (in), 14 GA (in), 15 2D (in), 16 VCC (power) hidden to VCC

## 74376
designator U?
pins: 1 CLR (in), 2 J1 (in), 3 K1 (in), 4 Q1 (out), 5 Q2 (out), 6 K2 (in), 7 J2 (in), 8 GND (power) hidden to GND, 9 CLK (in), 10 J3 (in), 11 K3 (in), 12 Q3 (out), 13 Q4 (out), 14 K4 (in), 15 J4 (in), 16 VCC (power) hidden to VCC